# EAGLE library part 2051-ZIF (library FiftyOneFunParts)
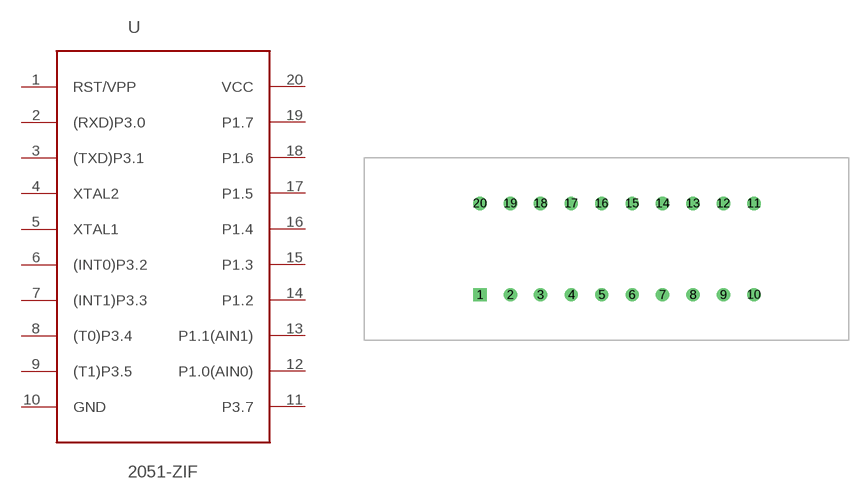
[diagram p3: symbol with the pads of 2051-ZIF; footprint 2051-ZIF]

Designator prefix -

## 2051-ZIF  [2051-ZIF]
1  RST/VPP
2  (RXD)P3.0
3  (TXD)P3.1
4  XTAL2
5  XTAL1
6  (INT0)P3.2
7  (INT1)P3.3
8  (T0)P3.4
9  (T1)P3.5
10  GND
11  P3.7
12  P1.0(AIN0)
13  P1.1(AIN1)
14  P1.2
15  P1.3
16  P1.4
17  P1.5
18  P1.6
19  P1.7
20  VCC

## Footprint 2051-ZIF (pad centres in mm)
drill 0.6 square: 1 -10.56,-3.81
drill 0.6: 2 -8.02,-3.81; 3 -5.5,-3.81; 4 -2.94,-3.81; 5 -0.4,-3.81; 6 2.14,-3.81; 7 4.68,-3.81; 8 7.22,-3.81; 9 9.76,-3.81; 10 12.3,-3.81; 11 12.3,3.81; 12 9.76,3.81; 13 7.22,3.81; 14 4.68,3.81; 15 2.14,3.81; 16 -0.4,3.81; 17 -2.94,3.81; 18 -5.5,3.81; 19 -8.02,3.81; 20 -10.56,3.81